# Altium schematic symbol library LM78XX.SchLib: 1 symbol
Pins are listed as number, name and electrical type; pins without a type are passive.

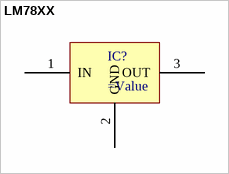
[diagram p0: symbol LM78XX]

## LM78XX
designator IC?
=Description
pins: 1 IN, 2 GND, 3 OUT